# EAGLE library part EXB-Q16P103J (library R-Panasonic-EXB_Q16PXXXJ)
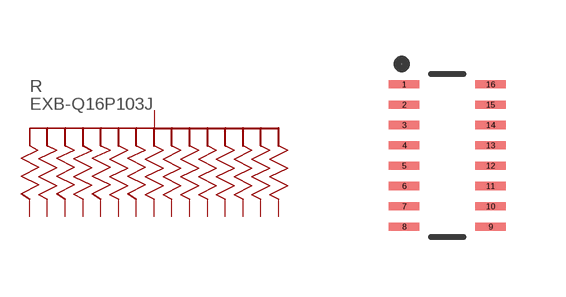
[diagram p0: symbol with the pads of EXBQ-M; footprint EXBQ-M]

Designator prefix R

## EXB-Q16P103JEXBQ-M (MANUFACTURER_PART_NUMBER: EXBQ16P103J; VENDOR: Panasonic)  [EXBQ-M]
1  1  pas
2  3  pas
3  5  pas
4  7  pas
5  9  pas
6  11  pas
7  13  pas
8  15  pas
9  14  pas
10  12  pas
11  10  pas
12  8  pas
13  6  pas
14  4  pas
15  2  pas
16  COM  pas

## Footprint EXBQ-M (pad centres in mm)
smd 0.762 x 0.203: 1 -1.079,1.778; 2 -1.079,1.27; 3 -1.079,0.762; 4 -1.079,0.254; 5 -1.079,-0.254; 6 -1.079,-0.762; 7 -1.079,-1.27; 8 -1.079,-1.778; 9 1.079,-1.778; 10 1.079,-1.27; 11 1.079,-0.762; 12 1.079,-0.254; 13 1.079,0.254; 14 1.079,0.762; 15 1.079,1.27; 16 1.079,1.778